# Altium footprint library ELECTROMECHANICAL.PcbLib: 4 footprints
Each footprint in its own frame and in the unit in brackets; x right, y up, seen from the top. Pads: shape width x height; smd on the part's side, far side on the other; paste and mask are expansions set on the pad; w line width, h text height; cw(c..) or ccw(c..) is an arc to the next point about the centre after c.
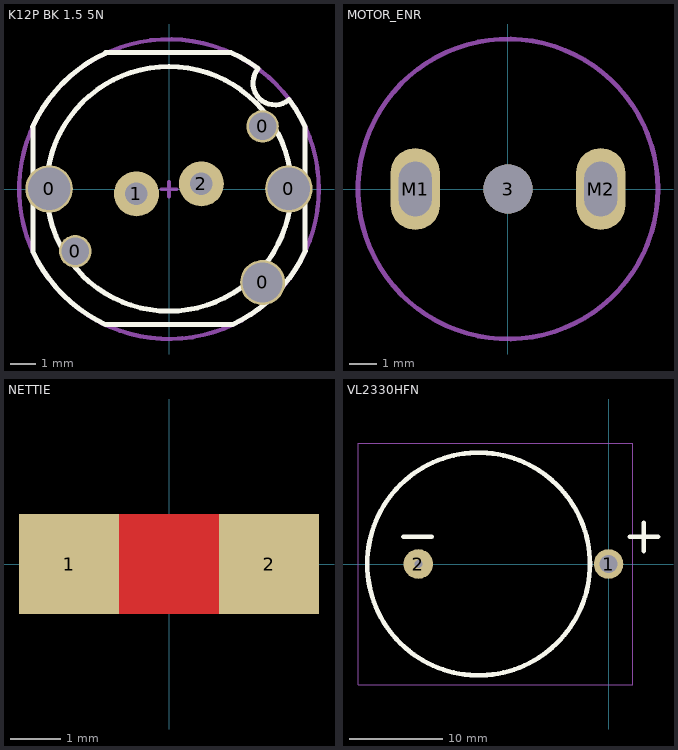
[diagram p0: the footprints below, top view; thin cyan lines are the x and y axes]

## K12P BK 1.5 5N [mm]
pads (7):
  round 1.9 hole 1.7 unplated: 0(-4.803,0.012) 0(4.797,0.012)
  round 1.3 hole 1.1 unplated: 0(-3.753,-2.488) 0(3.747,2.512)
  round 1.8 hole 1.6 unplated: 0(3.747,-3.738)
  round 1.8 hole 0.9: 1(-1.303,-0.188) 2(1.297,0.212)
Top Overlay:
  circle w0.2: c-0.003,0.012 r4.9
  lines w0.2: -5.465,2.494 cw(c-0.003,0.012) -2.538,5.45 ; -5.453,-2.523 -5.453,2.494 ; -5.442,-2.523 ccw(c-0.003,0.012) -2.538,-5.427 2.531,-5.427 ccw(c-0.003,0.012) 5.457,-2.476 ; -2.538,5.462 2.489,5.469 cw(c-0.003,0.012) 3.572,4.83 ; 3.567,4.822 ccw(c4.239,4.253) 4.809,3.583 cw(c-0.003,0.012) 5.448,2.501 5.447,-2.471
Top Assembly:
  circle w0.174: c0,0 r6.001
  text ".Designator" at -1.725,-0.525 h1
Top Component Center:
  lines w0.15: -0.3,-0.002 0.3,-0.002 ; 0,-0.302 0,0.298
3D body "K12PBK.stp": height 11.06, standoff -3.45, extent -8.541,-8.541 8.401,8.401

## MOTOR_ENR [mm]
pads (3):
  round 1.8 hole 1.8: 3(0.002,0)
  oval 1.8x3 hole 2 slot 1.2 at 0 deg: M1(-3.398,0) M2(3.402,0)
Top Assembly:
  circle w0.174: c0.002,0 r5.5
  text ".Designator" at -2.698,-2.925 h1
Top Component Center:
  lines w0.15: -0.298,-0.002 0.302,-0.002 ; 0.002,-0.302 0.002,0.298
3D body: height 4.5, standoff 0, extent -0.496,-0.499 0.5,0.499
3D body: height 4.45, standoff 2.4, extent -3.798,-3.8 3.802,3.8

## NETTIE [mm]
pads (2):
  rect 2x2 smd: 1(-2,0) 2(2,0)
Top Layer:
  rectangle: -1.325,-1 1.475,1

## VL2330HFN [mm]
pads (2):
  round 3.18 hole 1.9: 1(0,0)
  round 3.18 hole 0.85: 2(-20.5,0)
Top Overlay:
  lines w0.5: -22.098,2.921 -19.05,2.921 ; 2.286,2.921 5.334,2.921 ; 3.81,1.397 3.81,4.445 ; -26,0 ccw(c-14,0) -2,0 ccw(c-14,0) -26,0
Mechanical 13:
  lines w0.2: -26,0 ccw(c-14,0) -2,0 ccw(c-14,0) -26,0
Mechanical 15:
  lines w0.1: -27,-13 2.59,-13 2.59,13 -27,13 -27,-13
3D body "VL-2330_HFN.stp": height 5.47, standoff -3.43, extent -24,-11.55 0,11.55